# EAGLE library part TPS62110 (library WASP)
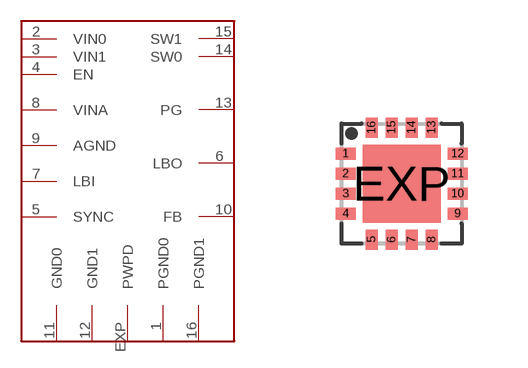
[diagram p8: symbol with the pads of QFN16; footprint QFN16]

Designator prefix -

## TPS62110  [QFN16]
1  PGND0
2  VIN0
3  VIN1
4  EN
5  SYNC
6  LBO
7  LBI
8  VINA
9  AGND
10  FB
11  GND0
12  GND1
13  PG
14  SW0
15  SW1
16  PGND1
EXP  PWPD

## Footprint QFN16 (pad centres in mm)
QFN 16 3x3 mm Source: www.hittite.com .. hmc492lp3.pdf
smd 0.5 x 0.3: 1 -1.4,0.75; 2 -1.4,0.25; 3 -1.4,-0.25; 4 -1.4,-0.75; 9 1.4,-0.75; 10 1.4,-0.25; 11 1.4,0.25; 12 1.4,0.75
smd 0.3 x 0.5: 5 -0.75,-1.4; 6 -0.25,-1.4; 7 0.25,-1.4; 8 0.75,-1.4; 13 0.75,1.4; 14 0.25,1.4; 15 -0.25,1.4; 16 -0.75,1.4
smd 1.95 x 1.95: EXP 0,0